# Altium footprint library SmartSensors.PcbLib: 40 footprints (part 1 of 3)
Each footprint in its own frame and in the unit in brackets; x right, y up, seen from the top. Pads: shape width x height; smd on the part's side, far side on the other; paste and mask are expansions set on the pad; w line width, h text height; cw(c..) or ccw(c..) is an arc to the next point about the centre after c.
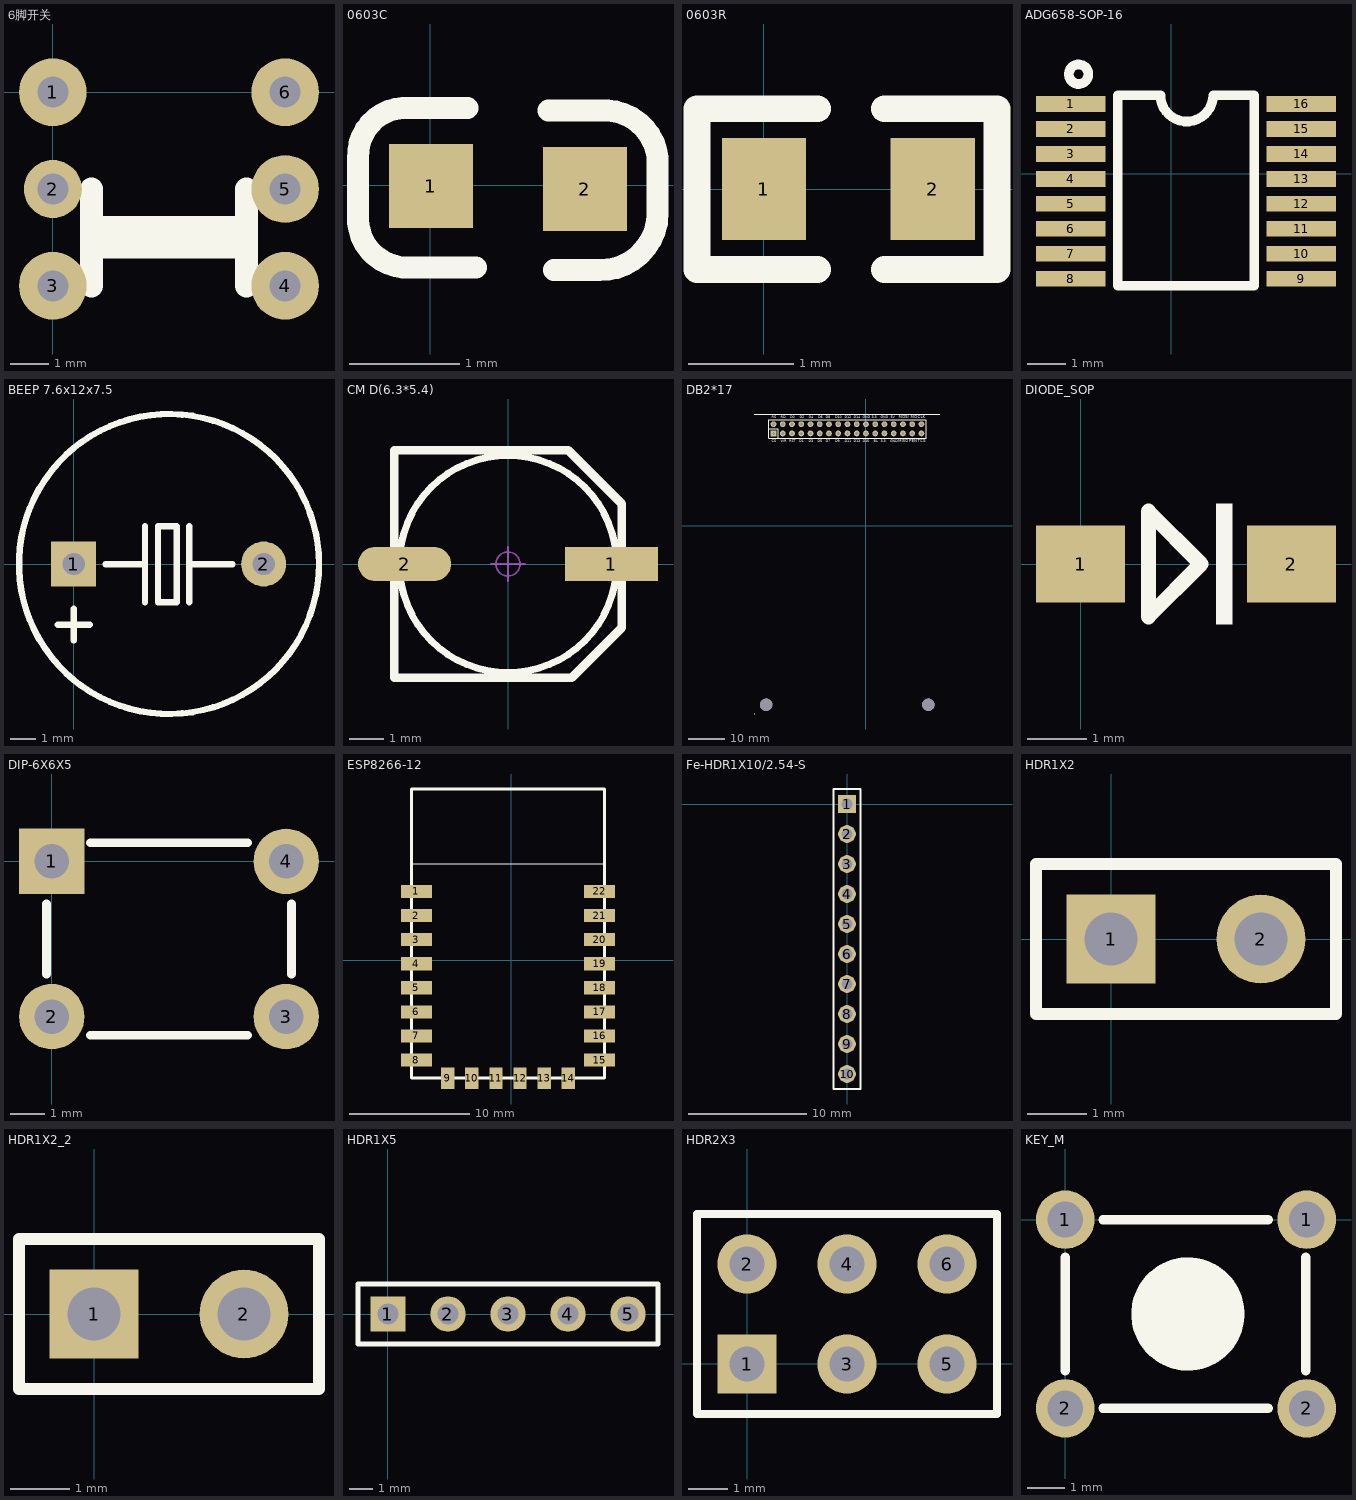
[diagram p0: the footprints below, top view; thin cyan lines are the x and y axes]

## 6脚开关 [mil]
pads (6):
  round 70 hole 32: 1(0,0) 3(0,-200) 4(240,-200) 5(240,-100) 6(240,0)
  round 60 hole 32: 2(0,-100)
Top Overlay:
  lines w24: 40,-200 40,-100 ; 40,-160 200,-160 ; 40,-140 190,-140 ; 200,-200 200,-100
3D body "User Library-PSM1-0-0.STEP": height 118.11, standoff -551.18, extent -37.47,-257.48 277.49,57.48

## 0603C [mil]
pads (2):
  rect 30x30 smd: 1(0.21,-0.35) 2(55.21,-1.35)
Top Overlay:
  lines w7.87: 13.21,27.65 -9.79,27.65 ccw(c-8.79,10.65) -25.79,9.65 -25.79,-10.35 ccw(c-8.29,-11.85) -9.79,-29.35 16.21,-29.35 ; 42.21,26.65 60.21,26.65 cw(c62.21,7.65) 81.21,9.65 81.21,-10.35 cw(c60.71,-9.85) 60.21,-30.35 44.21,-30.35
3D body "0603 SMD Capacitor.STEP": height 11.89, standoff 0, extent -1.49,-14.99 61.5,16.5

## 0603R [mm]
pads (2):
  rect 0.8x0.965 smd: 1(0,0) 2(1.6,0)
Top Overlay:
  lines w0.254: 0.508,-0.762 -0.635,-0.762 -0.635,0.762 0.508,0.762 ; 1.143,-0.762 2.21,-0.762 2.21,0.762 1.143,0.762
3D body "RES0603.STEP": height 0.45, standoff 0, extent -0.038,-0.41 1.562,0.41

## ADG658-SOP-16 [mil]
pads (16):
  rect 71x16 smd: 1(-103.11,71.21) 2(-103.11,45.62) 3(-103.11,20.03) 4(-103.11,-5.56) 5(-103.11,-31.15) 6(-103.11,-56.74) 7(-103.11,-82.33) 8(-103.11,-107.92) 9(133.11,-107.92) 10(133.11,-82.33) 11(133.11,-56.74) 12(133.11,-31.15) 13(133.11,-5.56) 14(133.11,20.03) 15(133.11,45.62) 16(133.11,71.21)
Top Overlay:
  circle w10: c-95,101.71 r10
  lines w10: -55,-115 -55,80 -11.21,80.25 ccw(c15.79,80.25) 42.79,80.25 85,80 85,-115 -55,-115

## BEEP 7.6x12x7.5 [mm]
pads (2):
  rect 1.8x1.8 hole 0.9: 1(0,0)
  round 1.8 hole 0.9: 2(7.6,0)
Top Overlay:
  circle w0.254: c3.811,0 r6.001
  lines w0.254: -0.634,-2.424 0.636,-2.424 ; 0.001,-3.059 0.001,-1.789 ; 1.271,-0.011 2.848,-0.011 ; 2.848,-1.535 2.848,1.513 ; 4.623,-1.535 4.623,1.513 ; 4.623,-0.011 6.351,-0.011 ; 3.373,-1.535 4.123,-1.535 4.123,1.513 3.373,1.513 3.373,-1.535
3D body "BEEP 7.6x12x7.5.STEP": height 7.55, standoff -3.25, extent -2.19,-5.969 9.81,6.031

## CM D(6.3*5.4) [mm]
pads (2):
  rect 2.7x1 smd: 1(3,0)
  oval 2.7x1 smd: 2(-3,0)
Top Overlay:
  circle w0.2: c0,0 r3.15
  lines w0.254: -3.3,-3.3 1.85,-3.3 3.3,-1.85 3.3,1.75 1.75,3.3 -3.3,3.3 -3.3,-3.3
Mechanical 15:
  circle w0.05: c0,0 r0.35
  lines w0.05: -0.5,0 0.5,0 ; 0,-0.5 0,0.5
3D body "CM D(6.3X5.4).STEP": height 5.4, standoff -0.01, extent -3.5,-3.3 3.5,3.3

## DB2*17 [mil]
pads (36):
  rect 62x62 hole 35: 1(-1000,1000)
  round 62 hole 35: 2(-1000,1100) 3(-900,1000) 4(-900,1100) 5(-800,1000) 6(-800,1100) 7(-700,1000) 8(-700,1100) 9(-600,1000) 10(-600,1100) 11(-500,1000) 12(-500,1100) 13(-400,1000) 14(-400,1100) 15(-300,1000) 16(-300,1100) 17(-200,1000) 18(-200,1100) 19(-100,1000) 20(-100,1100) 21(0,1000) 22(0,1100) 23(100,1000) 24(100,1100) 25(200,1000) 26(200,1100) 27(300,1000) 28(300,1100) 29(400,1000) 30(400,1100) 31(500,1000) 32(500,1100) 33(600,1000) 34(600,1100)
  round 133.86 hole 133.86: ""(-1080,-1935) ""(675,-1935)
Top Overlay:
  lines w6: -1050,1050 -950,1050 -950,950 ; -1050,950 650,950 650,1150 -1050,1150 -1050,950
  lines w10: -1210,-2030 -1205,-2035 ; -1210,1210 -625,1210 800,1210
  text "3.3" at 162.4,905.51 h28
  text "BL" at 83.66,905.51 h28
  text "MISO" at 349.41,905.51 h30
  text "TCS" at 561.02,905.51 h30
  text "MO" at 482.28,1161.42 h30
  text "MOSI" at 354.33,1161.42 h30
  text "CLK" at 561.02,1161.42 h30
  text "PEN" at 467.52,905.51 h30
  text "D11" at -231.3,905.51 h28
  text "GND" at 260.83,905.51 h28
  text "GND" at -34.45,1161.42 h28
  text "RD" at -920.28,1161.42 h28
  text "D0" at -816.93,1161.42 h28
  text "D10" at -334.65,1161.42 h28
  text "3.3" at 63.98,1161.42 h28
  text "GND" at 162.4,1161.42 h28
  text "5V" at 265.75,1161.42 h28
  text "D15" at -34.45,905.51 h28
  text "D12" at -231.3,1161.42 h28
  text "D13" at -132.87,905.51 h28
  text "D9" at -329.72,905.51 h28
  text "D8" at -433.07,1161.42 h28
  text "D6" at -516.73,1161.42 h28
  text "D5" at -521.65,905.51 h28
  text "D4" at -620.08,1161.42 h28
  text "D3" at -620.08,905.51 h28
  text "D2" at -718.5,1161.42 h28
  text "D1" at -723.43,905.51 h28
  text "RST" at -831.69,905.51 h28
  text "WR" at -920.28,905.51 h28
  text "CS" at -1018.7,905.51 h28
  text "RS" at -1018.7,1161.42 h28
  text "D7" at -433.07,905.51 h28
  text "D14" at -132.87,1161.42 h28

## DIODE_SOP [mm]
pads (2):
  rect 1.5x1.3 smd: 1(0,0) 2(3.556,0)
Top Overlay:
  rectangle: 2.286,-1.016 2.559,1.016
  lines w0.254: 1.143,-0.889 2.032,0 1.143,0.889 1.143,-0.889

## DIP-6X6X5 [mm]
pads (4):
  rect 1.9x1.9 hole 1: 1(0,0)
  round 1.9 hole 1: 2(0,-4.5) 3(6.8,-4.5) 4(6.8,0)
Top Overlay:
  lines w0.254: -0.156,-3.266 -0.156,-1.234 ; 1.114,-5.044 5.686,-5.044 ; 1.114,0.544 5.686,0.544 ; 6.956,-3.266 6.956,-1.234
3D body "DIP-6X6X5.STEP": height 4.95, standoff -3.45, extent -0.804,-5.238 7.408,0.762

## ESP8266-12 [mm]
pads (22):
  rect 2.6x1.1 smd: 1(-7.854,5.718) 2(-7.854,3.718) 3(-7.854,1.718) 4(-7.854,-0.282) 5(-7.854,-2.282) 6(-7.854,-4.282) 7(-7.854,-6.282) 8(-7.854,-8.282) 15(7.346,-8.282) 16(7.346,-6.282) 17(7.346,-4.282) 18(7.346,-2.282) 19(7.346,-0.282) 20(7.346,1.718) 21(7.346,3.718) 22(7.346,5.718)
  rect 1.1x1.8 smd: 9(-5.254,-9.782) 10(-3.254,-9.782) 11(-1.254,-9.782) 12(0.746,-9.782) 13(2.746,-9.782) 14(4.746,-9.782)
Top Overlay:
  lines w0.1: -8.254,8.018 7.746,8.018
  lines w0.254: -8.254,-9.782 -8.254,14.218 7.746,14.218 7.746,-9.782 -8.254,-9.782

## Fe-HDR1X10/2.54-S [mm]
pads (10):
  rect 1.5x1.5 hole 0.9: 1(0,0)
  round 1.5 hole 0.9: 2(0,-2.54) 3(0,-5.08) 4(0,-7.62) 5(0,-10.16) 6(0,-12.7) 7(0,-15.24) 8(0,-17.78) 9(0,-20.32) 10(0,-22.86)
Top Overlay:
  lines w0.2: -1.143,-24.13 1.143,-24.13 1.143,-0.762 1.143,1.27 -1.143,1.27 -1.143,-24.13
3D body "Female-Header-2.54-Single-10.stp": height 3.2, standoff -8.5, extent -1.25,-24.255 1.25,1.395

## HDR1X2 [mm] "Connector; Header; 2 Position"
pads (2):
  rect 1.5x1.5 hole 0.9: 1(0,0)
  round 1.5 hole 0.9: 2(2.54,0)
Top Overlay:
  lines w0.2: -1.27,-1.27 3.81,-1.27 3.81,1.27 -1.27,1.27 -1.27,-1.27
3D body "HDR1X2.step": height 8.34, standoff -3.85, extent -1.27,-1.016 3.81,1.524

## HDR1X2_2 [mm]
pads (2):
  rect 1.5x1.5 hole 0.9: 1(0,0)
  round 1.5 hole 0.9: 2(2.54,0)
Top Overlay:
  lines w0.2: -1.27,-1.27 3.81,-1.27 3.81,1.27 -1.27,1.27 -1.27,-1.27
3D body "HDR1X2.step": height 8.34, standoff -3.85, extent -1.27,-1.016 3.81,1.524

## HDR1X5 [mm] "Connector; Header; 5 Position"
pads (5):
  rect 1.5x1.5 hole 0.9: 1(0,0)
  round 1.5 hole 0.9: 2(2.54,0) 3(5.08,0) 4(7.62,0) 5(10.16,0)
Top Overlay:
  lines w0.2: -1.27,-1.27 -1.27,1.27 11.43,1.27 11.43,-1.27 -1.27,-1.27

## HDR2X3 [mm]
pads (6):
  rect 1.5x1.5 hole 0.9: 1(0,0)
  round 1.5 hole 0.9: 2(0,2.54) 3(2.54,0) 4(2.54,2.54) 5(5.08,0) 6(5.08,2.54)
Top Overlay:
  lines w0.2: 1.482,-1.27 6.35,-1.27 ; 6.35,-1.27 -1.27,-1.27 -1.27,3.81 6.35,3.81 6.35,-1.27

## KEY_M [mil]
pads (4):
  round 62 hole 38: 1(0,0) 1(255.91,0) 2(0,-200) 2(255.91,-200)
Top Overlay:
  circle w60: c130,-100 r30
  lines w10: -0.03,-160 -0.03,-40 ; 39.97,-200 215,-200 ; 39.97,0 215,0 ; 255,-160 255,-40